# EAGLE library part TEENSY_3.2_EXT (library HyTechDevices)
Version of the Teensy LC board that uses the 2 main rows of pins and the pins opposite the usb port.
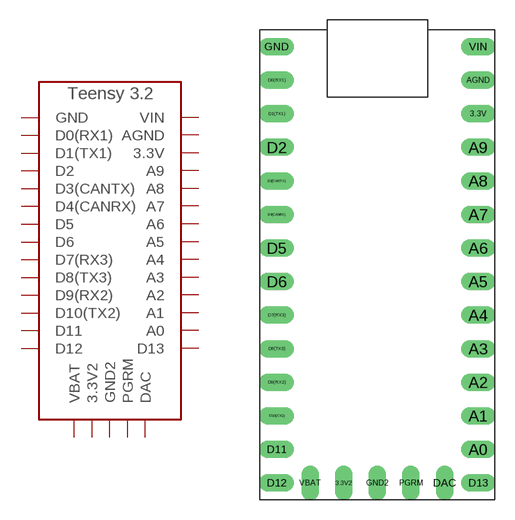
[diagram p80: symbol with the pads of TEENSY_3.2_EXT; footprint TEENSY_3.2_EXT]

Designator prefix -

## TEENSY_3.2_EXT  [TEENSY_3.2_EXT]
3.3V  3.3V
3.3V2  3.3V2
A0  A0
A1  A1
A2  A2
A3  A3
A4  A4
A5  A5
A6  A6
A7  A7
A8  A8
A9  A9
AGND  AGND
D0(RX1)  D0(RX1)
D1(TX1)  D1(TX1)
D2  D2
D3(CANTX)  D3(CANTX)
D4(CANRX)  D4(CANRX)
D5  D5
D6  D6
D7(RX3)  D7(RX3)
D8(TX3)  D8(TX3)
D9(RX2)  D9(RX2)
D10(TX2)  D10(TX2)
D11  D11
D12  D12
D13  D13
DAC  DAC
GND  GND
GND2  GND2
PGRM  PGRM
VBAT  VBAT
VIN  VIN

## Footprint TEENSY_3.2_EXT (pad centres in mm)
drill 0.8 long: 3.3V 16.51,29.21; 3.3V2 6.35,1.27; A0 16.51,3.81; A1 16.51,6.35; A2 16.51,8.89; A3 16.51,11.43; A4 16.51,13.97; A5 16.51,16.51; A6 16.51,19.05; A7 16.51,21.59; A8 16.51,24.13; A9 16.51,26.67; AGND 16.51,31.75; D0(RX1) 1.27,31.75; D1(TX1) 1.27,29.21; D2 1.27,26.67; D3(CANTX) 1.27,24.13; D4(CANRX) 1.27,21.59; D5 1.27,19.05; D6 1.27,16.51; D7(RX3) 1.27,13.97; D8(TX3) 1.27,11.43; D9(RX2) 1.27,8.89; D10(TX2) 1.27,6.35; D11 1.27,3.81; D12 1.27,1.27; D13 16.51,1.27; DAC 13.97,1.27; GND 1.27,34.29; GND2 8.89,1.27; PGRM 11.43,1.27; VBAT 3.81,1.27; VIN 16.51,34.29